# Altium footprint library PcbLib.PcbLib: 17 footprints (part 1 of 2)
Each footprint in its own frame and in the unit in brackets; x right, y up, seen from the top. Pads: shape width x height; smd on the part's side, far side on the other; paste and mask are expansions set on the pad; w line width, h text height; cw(c..) or ccw(c..) is an arc to the next point about the centre after c.
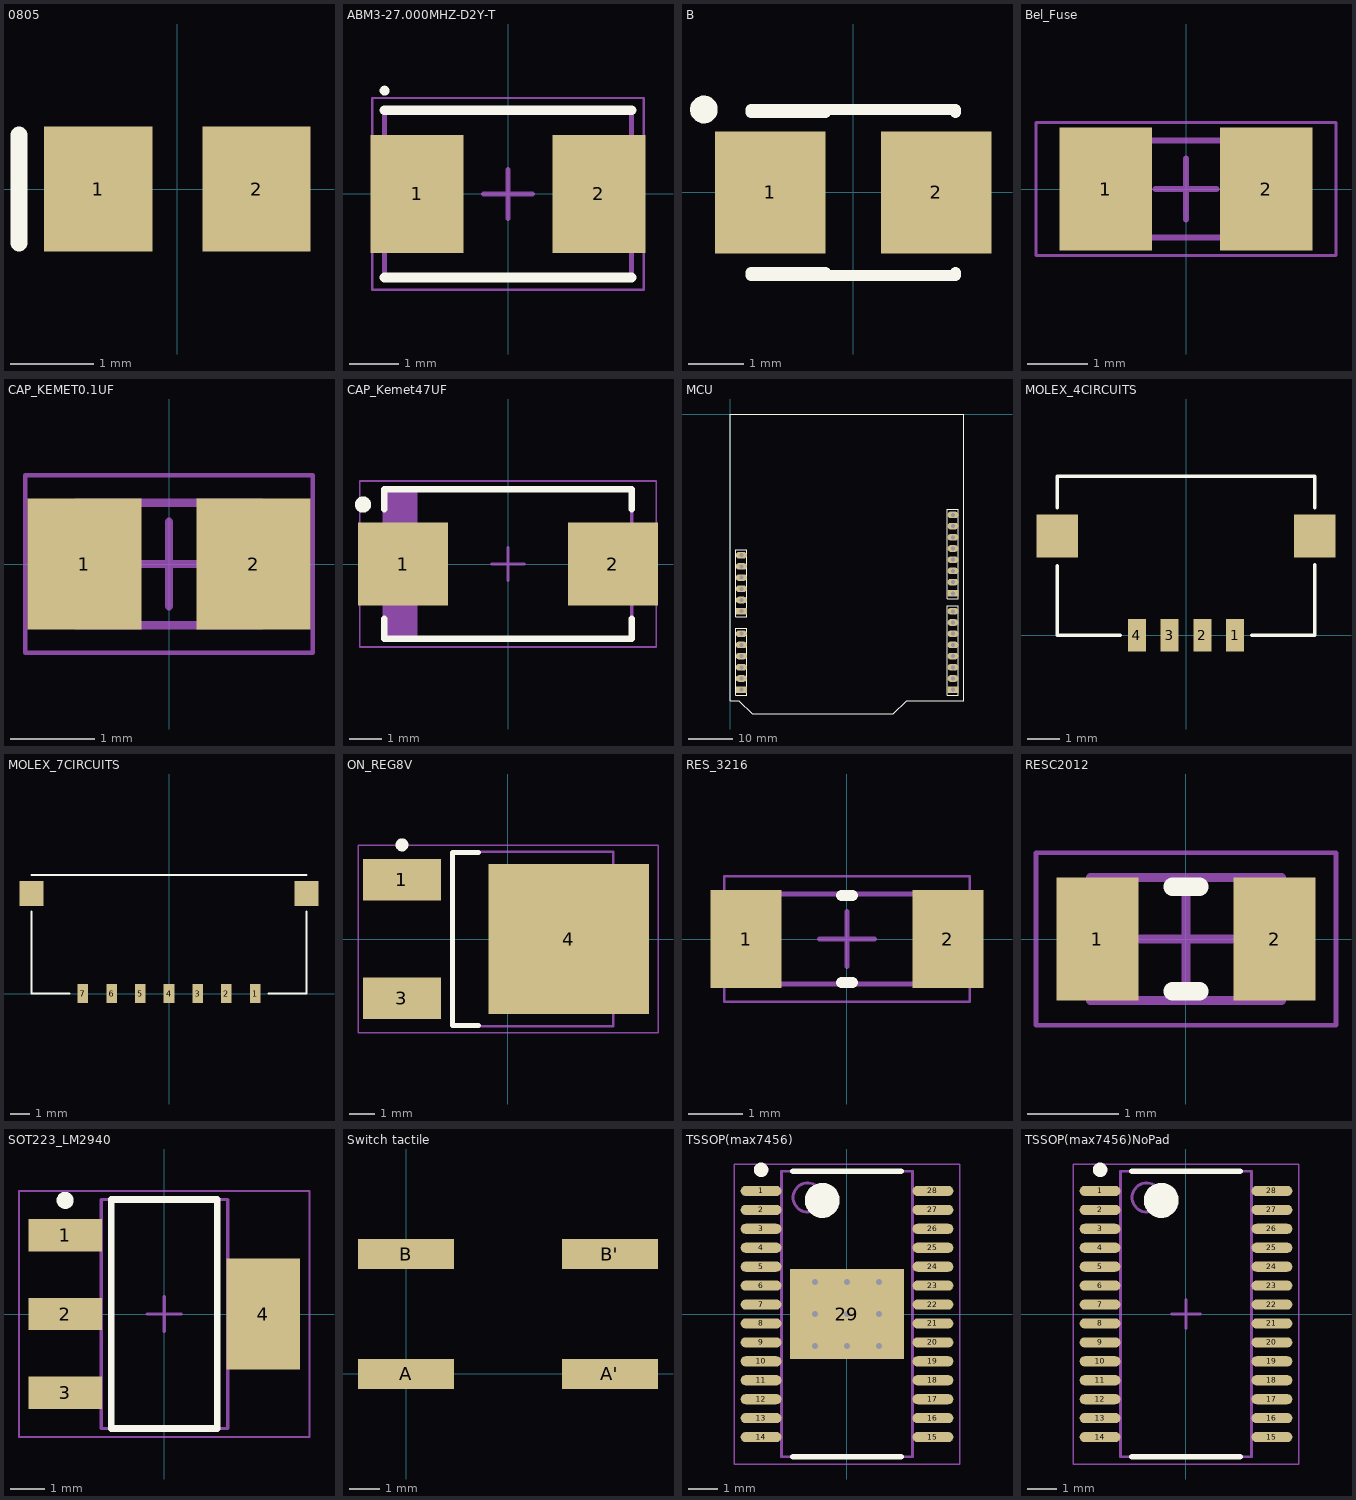
[diagram p0: the footprints below, top view; thin cyan lines are the x and y axes]

## 0805 [mm] "Chip Capacitor; Body 2.0 x 1.2 mm (LxW typ)"
height 1.3
pads (2):
  rect 1.3x1.5 smd: 1(-0.95,0) 2(0.95,0)
Top Overlay:
  lines w0.2: -1.9,-0.65 -1.9,0.65

## ABM3-27.000MHZ-D2Y-T [mm] "DFN, 2-Leads, Body 3,30x5,01mm, Pitch 3,70mm, IPC Medium Density"
height 1.3
pads (2):
  rect 1.9x2.4 smd: 1(-1.85,0) 2(1.85,0)
Top Overlay:
  circle w0.1: c-2.51,2.1 r0.05
  lines w0.2: -2.51,-1.7 2.51,-1.7 ; -2.51,1.7 2.51,1.7
Mechanical 13:
  lines w0.1: -2.51,-1.7 -2.51,1.7 2.51,1.7 2.51,-1.7 -2.51,-1.7
Mechanical 15:
  lines w0.05: -2.76,-1.95 -2.76,1.95 2.76,1.95 2.76,-1.95 -2.76,-1.95
  lines w0.1: -0.5,0 0.5,0 ; 0,-0.5 0,0.5
3D body: height 1.3, standoff 0, extent -2.51,-1.7 2.51,1.7
3D body "ABM3.STEP": height 1.3, standoff 0, extent -2.5,-1.6 2.5,1.6

## B [mm] "Capacitor, SM Tantalum; Body 3.5 x 2.8 mm (LxW typ)"
height 2.1
pads (2):
  rect 2x2.2 smd: 1(-1.5,0) 2(1.5,0)
Top Overlay:
  circle w0.25: c-2.7,1.5 r0.125
  lines w0.2: -1.85,-1.5 1.85,-1.5 1.85,-1.45 ; -1.85,-1.45 -0.5,-1.45 ; -1.85,1.45 -0.5,1.45 ; -1.85,1.5 1.85,1.5 1.85,1.45

## Bel_Fuse [mm] "Molded Capacitor, 2-Leads, Body 3,30x1,59mm, IPC Medium Density"
height 0.6
pads (2):
  rect 1.52x2.03 smd: 1(-1.325,0) 2(1.325,0)
Mechanical 13:
  lines w0.1: -1.7,-0.8 1.7,-0.8 1.7,0.8 -1.7,0.8 -1.7,-0.8
Mechanical 15:
  lines w0.05: -2.475,-1.1 2.475,-1.1 2.475,1.1 -2.475,1.1 -2.475,-1.1
  lines w0.1: -0.5,0 0.5,0 ; 0,-0.5 0,0.5
3D body "Bel_Fuse.step": height 0.6, standoff 0, extent -1.92,-0.8 1.92,0.8

## CAP_KEMET0.1UF [mm]
height 0.9
pads (2):
  rect 1.35x1.55 smd: 1(-1,0) 2(1,0)
Mechanical 13:
  lines w0.1: -1.1,-0.725 -1.1,0.725 1.1,0.725 1.1,-0.725 -1.1,-0.725
Mechanical 15:
  lines w0.05: -1.7,-1.05 -1.7,1.05 1.7,1.05 1.7,-1.05 -1.7,-1.05
  lines w0.1: -0.5,0 0.5,0 ; 0,-0.5 0,0.5
3D body "CAP_KEMET0.1UF.step": height 0.9, standoff 0, extent -1.1,-0.725 1.1,0.725

## CAP_Kemet47UF [mm]
height 3.1
pads (2):
  rect 2.77x2.55 smd: 1(-3.22,0) 2(3.22,0)
Top Overlay:
  circle w0.25: c-4.45,1.825 r0.125
  lines w0.2: -3.8,-1.675 -3.8,-2.3 3.8,-2.3 3.8,-1.675 ; -3.8,1.675 -3.8,2.3 3.8,2.3 3.8,1.675
Mechanical 13:
  rectangle: -3.8,-2.3 -2.778,2.3
  lines w0.1: -3.8,-2.3 -3.8,2.3 3.8,2.3 3.8,-2.3 -3.8,-2.3
Mechanical 15:
  lines w0.05: -4.55,-2.55 -4.55,2.55 4.55,2.55 4.55,-2.55 -4.55,-2.55
  lines w0.1: -0.5,0 0.5,0 ; 0,-0.5 0,0.5
3D body "CAP_Kemet47UF.step": height 3.1, standoff 0, extent -4.02,-2.3 4.02,2.3

## MCU [mm]
pads (28):
  rect 2.5x1.5 hole 0.9: 0(50.5,-62.5) 8(50.5,-40.65) A5(2.55,-62.5) Vin(2.55,-44.7)
  oval 2.5x1.5 hole 0.9: 1(50.5,-59.96) 2(50.5,-57.42) 3(50.5,-54.88) 3.3V(2.55,-34.54) 4(50.5,-52.34) 5(50.5,-49.8) 5V(2.55,-37.08) 6(50.5,-47.26) 7(50.5,-44.72) 9(50.5,-38.11) 10(50.5,-35.57) 11(50.5,-33.03) 12(50.5,-30.49) 13(50.5,-27.95) A0(2.55,-49.8) A1(2.55,-52.34) A2(2.55,-54.88) A3(2.55,-57.42) A4(2.55,-59.96) AREF(50.5,-22.87) GND(2.55,-42.16) GND(2.55,-39.62) GND(50.5,-25.41) RST(2.55,-32)
Top Overlay:
  lines w0.2: 1.28,-63.77 1.28,-48.53 3.82,-48.53 3.82,-63.77 1.28,-63.77 ; 1.28,-45.97 1.28,-30.73 3.82,-30.73 3.82,-45.97 1.28,-45.97 ; 49.23,-63.77 49.23,-43.45 51.77,-43.45 51.77,-63.77 49.23,-63.77 ; 49.23,-41.92 49.23,-21.6 51.77,-21.6 51.77,-41.92 49.23,-41.92
  lines w0.254: 0,-65 2,-65 5,-68 37,-68 40,-65 53,-65 53,0 0,0 0,-65

## MOLEX_4CIRCUITS [mm]
pads (6):
  rect 0.55x1 smd: 1(1.5,0) 2(0.5,0) 3(-0.5,0) 4(-1.5,0)
  rect 1.26x1.3 smd: ""(-3.925,3.03) ""(3.925,3.03)
Top Overlay:
  lines w0.1: -3.925,2.125 -3.925,0 -2,0 ; -3.925,3.88 -3.925,4.85 3.925,4.85 3.925,3.88 ; 2,0 3.925,0 3.925,2.15
3D body "5037630491.stp": height 1.48, standoff -0.02, extent -4.3,-0.315 4.3,4.875

## MOLEX_7CIRCUITS [mm]
pads (9):
  rect 0.55x1 smd: 1(4.5,0) 2(3,0) 3(1.5,0) 4(0,0) 5(-1.5,0) 6(-3,0) 7(-4.5,0)
  rect 1.26x1.3 smd: ""(-7.18,5.225) ""(7.18,5.225)
Top Overlay:
  lines w0.1: -7.18,4.3 -7.18,0 -5.19,0 ; -7.18,6.2 7.18,6.2 ; 5.19,0 7.18,0 7.18,4.3
3D body "5040500791.stp": height 1.98, standoff -0.02, extent -7.525,-0.34 7.525,6.1

## ON_REG8V [mm] "D-PAK, 3-Pads, Body 6,21x6,73mm (max), IPC Medium Density"
height 2.38
pads (3):
  rect 3x1.6 smd: 1(-4.1,2.29) 3(-4.1,-2.29)
  rect 6.2x5.8 smd: 4(2.35,0)
Top Overlay:
  circle w0.25: c-4.1,3.64 r0.125
  lines w0.2: -1.15,-3.35 -2.15,-3.35 -2.15,3.35 -1.15,3.35
Mechanical 13:
  lines w0.1: -2.15,-3.375 -2.15,3.375 4.07,3.375 4.07,-3.375 -2.15,-3.375
Mechanical 15:
  lines w0.05: -5.8,-3.625 -5.8,3.625 5.8,3.625 5.8,-3.625 -5.8,-3.625
  lines w0.1: -0.5,0 0.5,0 ; 0,-0.5 0,0.5
3D body "ON_REG8V.step": height 2.89, standoff 0, extent -3.79,-3.375 6.115,3.375

## RES_3216 [mm]
height 0.7
pads (2):
  rect 1.3x1.8 smd: 1(-1.85,0) 2(1.85,0)
Top Overlay:
  lines w0.2: -0.1,-0.8 0.1,-0.8 ; -0.1,0.8 0.1,0.8
Mechanical 13:
  lines w0.1: -1.625,-0.825 -1.625,0.825 1.625,0.825 1.625,-0.825 -1.625,-0.825
Mechanical 15:
  lines w0.05: -2.25,-1.15 -2.25,1.15 2.25,1.15 2.25,-1.15 -2.25,-1.15
  lines w0.1: -0.5,0 0.5,0 ; 0,-0.5 0,0.5
3D body "Chip2PinSM127P600-8N.step": height 0.7, standoff 0, extent -1.625,-0.825 1.625,0.825

## RESC2012 [mm] "Chip Resistor, 2-Leads, Body 2,05x1,30mm, IPC Medium Density"
height 0.6
pads (2):
  rect 0.9x1.35 smd: 1(-0.975,0) 2(0.975,0)
Top Overlay:
  lines w0.2: -0.15,-0.575 0.15,-0.575 ; -0.15,0.575 0.15,0.575
Mechanical 13:
  lines w0.1: -1.05,-0.675 -1.05,0.675 1.05,0.675 1.05,-0.675 -1.05,-0.675
Mechanical 15:
  lines w0.05: -1.65,-0.95 -1.65,0.95 1.65,0.95 1.65,-0.95 -1.65,-0.95
  lines w0.1: -0.5,0 0.5,0 ; 0,-0.5 0,0.5
3D body "RESC2012.step": height 0.6, standoff 0, extent -1.05,-0.675 1.05,0.675

## SOT223_LM2940 [mm] "SOT223, 4-Leads, Body 6.50x7.00mm (avg), Pitch 2.30mm, IPC Medium Density"
height 1.8
pads (4):
  rect 2.15x0.95 smd: 1(-2.9,2.3) 2(-2.9,0) 3(-2.9,-2.3)
  rect 2.15x3.25 smd: 4(2.9,0)
Top Overlay:
  circle w0.25: c-2.9,3.325 r0.125
  lines w0.2: -1.55,-3.35 1.55,-3.35 1.55,3.35 -1.55,3.35 -1.55,-3.35
Mechanical 13:
  lines w0.1: -1.85,-3.35 1.85,-3.35 1.85,3.35 -1.85,3.35 -1.85,-3.35
Mechanical 15:
  lines w0.05: -4.25,-3.6 4.25,-3.6 4.25,3.6 -4.25,3.6 -4.25,-3.6
  lines w0.1: -0.5,0 0.5,0 ; 0,-0.5 0,0.5
3D body "SOT223_LM2940.step": height 1.8, standoff 0, extent -3.5,-3.35 3.5,3.35

## Switch tactile [mm]
pads (4):
  rect 3.2x1 smd: A(0,0) A'(6.8,0) B(0,4) B'(6.8,4)
3D body "EVQQ2-BFKPUY-02W.STEP": height 2.5, standoff 0, extent 0.1,-0.95 6.7,5.05

## TSSOP(max7456) [mm] "TSOP, 28-Leads, Body 9,70x4,40mm, Pitch 0,65mm, Thermal Pad 3,10x3,90mm, IPC Medium Density"
height 1.1
pads (29):
  oval 1.4x0.35 smd: 1(-2.95,4.225) 2(-2.95,3.575) 3(-2.95,2.925) 4(-2.95,2.275) 5(-2.95,1.625) 6(-2.95,0.975) 7(-2.95,0.325) 8(-2.95,-0.325) 9(-2.95,-0.975) 10(-2.95,-1.625) 11(-2.95,-2.275) 12(-2.95,-2.925) 13(-2.95,-3.575) 14(-2.95,-4.225) 15(2.95,-4.225) 16(2.95,-3.575) 17(2.95,-2.925) 18(2.95,-2.275) 19(2.95,-1.625) 20(2.95,-0.975) 21(2.95,-0.325) 22(2.95,0.325) 23(2.95,0.975) 24(2.95,1.625) 25(2.95,2.275) 26(2.95,2.925) 27(2.95,3.575) 28(2.95,4.225)
  rect 3.9x3.1 smd: 29(0,0)
via -1.1,1.1 diameter 0.5 hole 0.2
via 0,1.1 diameter 0.5 hole 0.2
via 1.1,1.1 diameter 0.5 hole 0.2
via -1.1,0 diameter 0.5 hole 0.2
via 0,0 diameter 0.5 hole 0.2
via 1.1,0 diameter 0.5 hole 0.2
via -1.1,-1.1 diameter 0.5 hole 0.2
via 0,-1.1 diameter 0.5 hole 0.2
via 1.1,-1.1 diameter 0.5 hole 0.2
Top Overlay:
  circle w0.25: c-2.95,4.95 r0.125
  circle w0.6: c-0.85,3.9 r0.3
  lines w0.2: -1.85,-4.9 1.85,-4.9 ; -1.85,4.9 1.85,4.9
Mechanical 13:
  circle w0.1: c-1.35,4 r0.5
  lines w0.1: -2.25,-4.9 -2.25,4.9 2.25,4.9 2.25,-4.9 -2.25,-4.9
Mechanical 15:
  lines w0.05: -3.875,-5.15 -3.875,5.15 3.875,5.15 3.875,-5.15 -3.875,-5.15
  lines w0.1: -0.5,0 0.5,0 ; 0,-0.5 0,0.5
3D body "TSSOP(max7456).step": height 1.1, standoff 0, extent -3.187,-4.9 3.187,4.9

## TSSOP(max7456)NoPad [mm] "TSOP, 28-Leads, Body 9,70x4,40mm, Pitch 0,65mm, Thermal Pad 3,10x3,90mm, IPC Medium Density"
height 1.1
pads (28):
  oval 1.4x0.35 smd: 1(-2.95,4.225) 2(-2.95,3.575) 3(-2.95,2.925) 4(-2.95,2.275) 5(-2.95,1.625) 6(-2.95,0.975) 7(-2.95,0.325) 8(-2.95,-0.325) 9(-2.95,-0.975) 10(-2.95,-1.625) 11(-2.95,-2.275) 12(-2.95,-2.925) 13(-2.95,-3.575) 14(-2.95,-4.225) 15(2.95,-4.225) 16(2.95,-3.575) 17(2.95,-2.925) 18(2.95,-2.275) 19(2.95,-1.625) 20(2.95,-0.975) 21(2.95,-0.325) 22(2.95,0.325) 23(2.95,0.975) 24(2.95,1.625) 25(2.95,2.275) 26(2.95,2.925) 27(2.95,3.575) 28(2.95,4.225)
Top Overlay:
  circle w0.25: c-2.95,4.95 r0.125
  circle w0.6: c-0.85,3.9 r0.3
  lines w0.2: -1.85,-4.9 1.85,-4.9 ; -1.85,4.9 1.85,4.9
Mechanical 13:
  circle w0.1: c-1.35,4 r0.5
  lines w0.1: -2.25,-4.9 -2.25,4.9 2.25,4.9 2.25,-4.9 -2.25,-4.9
Mechanical 15:
  lines w0.05: -3.875,-5.15 -3.875,5.15 3.875,5.15 3.875,-5.15 -3.875,-5.15
  lines w0.1: -0.5,0 0.5,0 ; 0,-0.5 0,0.5
3D body "TSSOP(max7456).step": height 1.1, standoff 0, extent -3.187,-4.9 3.187,4.9